# EAGLE library part RASPBERRY_PICO-NO_DEBUG (library RpiPico)
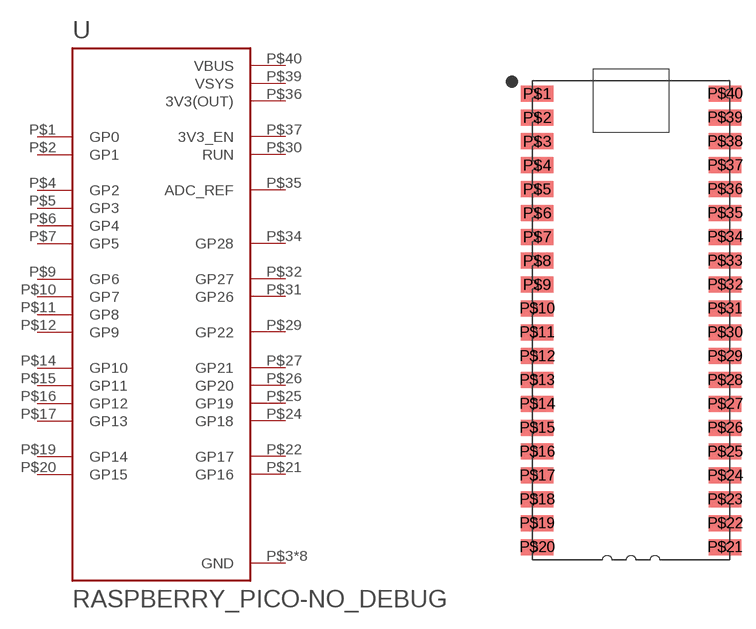
[diagram p2: symbol with the pads of PICO-PKG-NO_DEBUG; footprint PICO-PKG-NO_DEBUG]

Designator prefix U

## RASPBERRY_PICO-NO_DEBUG  [PICO-PKG-NO_DEBUG]
P$1  GP0
P$2  GP1
P$3  GND  pwr
P$4  GP2
P$5  GP3
P$6  GP4
P$7  GP5
P$8  GND  pwr
P$9  GP6
P$10  GP7
P$11  GP8
P$12  GP9
P$13  GND  pwr
P$14  GP10
P$15  GP11
P$16  GP12
P$17  GP13
P$18  GND  pwr
P$19  GP14
P$20  GP15
P$21  GP16
P$22  GP17
P$23  GND  pwr
P$24  GP18
P$25  GP19
P$26  GP20
P$27  GP21
P$28  GND  pwr
P$29  GP22
P$30  RUN  in
P$31  GP26
P$32  GP27
P$33  GND  pwr
P$34  GP28
P$35  ADC_REF  in
P$36  3V3(OUT)  pwr
P$37  3V3_EN  in
P$38  GND  pwr
P$39  VSYS  pwr
P$40  VBUS  pwr

## Footprint PICO-PKG-NO_DEBUG (pad centres in mm)
smd 3.5 x 1.7: P$1 -8.73,25.4; P$2 -8.73,22.86; P$3 -8.73,20.32; P$4 -8.73,17.78; P$5 -8.73,15.24; P$6 -8.73,12.7; P$7 -8.73,10.16; P$8 -8.73,7.62; P$9 -8.73,5.08; P$10 -8.73,2.54; P$11 -8.73,0; P$12 -8.73,-2.54; P$13 -8.73,-5.08; P$14 -8.73,-7.62; P$15 -8.73,-10.16; P$16 -8.73,-12.7; P$17 -8.73,-15.24; P$18 -8.73,-17.78; P$19 -8.73,-20.32; P$20 -8.73,-22.86; P$21 11.27,-22.86; P$22 11.27,-20.32; P$23 11.27,-17.78; P$24 11.27,-15.24; P$25 11.27,-12.7; P$26 11.27,-10.16; P$27 11.27,-7.62; P$28 11.27,-5.08; P$29 11.27,-2.54; P$30 11.27,0; P$31 11.27,2.54; P$32 11.27,5.08; P$33 11.27,7.62; P$34 11.27,10.16; P$35 11.27,12.7; P$36 11.27,15.24; P$37 11.27,17.78; P$38 11.27,20.32; P$39 11.27,22.86; P$40 11.27,25.4